# Altium integrated library Integrated_Library2.IntLib: 4 symbols
Pins are listed as number, name and electrical type; pins without a type are passive.

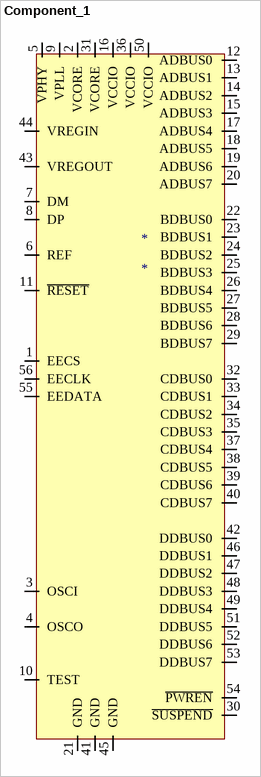
[diagram p0: symbol Component_1]

## Component_1
designator *
footprint QFN50P800X800X100-56N (QFN, 56-Leads, Body 8,1x8,1mm (max), Pitch 0,50mm, IPC Medium Density)
pins: 1 EECS, 2 VCORE, 3 OSCI, 4 OSCO, 5 VPHY, 6 REF, 7 DM, 8 DP, 9 VPLL, 10 TEST, 11 ~{RESET}, 12 ADBUS0, 13 ADBUS1, 14 ADBUS2, 15 ADBUS3, 16 VCCIO, 17 ADBUS4, 18 ADBUS5, 19 ADBUS6, 20 ADBUS7, 21 GND, 22 BDBUS0, 23 BDBUS1, 24 BDBUS2, 25 BDBUS3, 26 BDBUS4, 27 BDBUS5, 28 BDBUS6, 29 BDBUS7, 30 ~{SUSPEND}, 31 VCORE, 32 CDBUS0, 33 CDBUS1, 34 CDBUS2, 35 CDBUS3, 36 VCCIO, 37 CDBUS4, 38 CDBUS5, 39 CDBUS6, 40 CDBUS7, 41 GND, 42 DDBUS0, 43 VREGOUT, 44 VREGIN, 45 GND, 46 DDBUS1, 47 DDBUS2, 48 DDBUS3, 49 DDBUS4, 50 VCCIO, 51 DDBUS5, 52 DDBUS6, 53 DDBUS7, 54 ~{PWREN}, 55 EEDATA, 56 EECLK


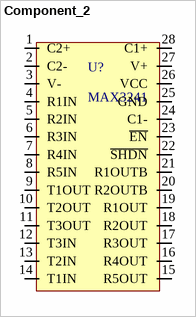
[diagram p1: symbol Component_2]

## Component_2
designator U?, comment MAX3241
footprint SOP65P780X199-28N (SOP, 28-Leads, Body 10,3x5,4mm (max), Pitch 0,65mm, IPC Medium Density)
pins: 1 C2+, 2 C2-, 3 V-, 4 R1IN, 5 R2IN, 6 R3IN, 7 R4IN, 8 R5IN, 9 T1OUT, 10 T2OUT, 11 T3OUT, 12 T3IN, 13 T2IN, 14 T1IN, 15 R5OUT, 16 R4OUT, 17 R3OUT, 18 R2OUT, 19 R1OUT, 20 R2OUTB, 21 R1OUTB, 22 ~{SHDN}, 23 ~{EN}, 24 C1-, 25 GND, 26 VCC, 27 V+, 28 C1+


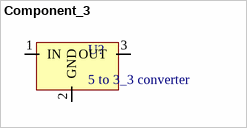
[diagram p2: symbol Component_3]

## Component_3
designator U?, comment 5 to 3_3 converter
footprint SOT230P700X180-4N (SOT223, 4-Leads, Body 6,7x7,3mm (max), Pitch 2,30mm, IPC Medium Density)
pins: 1 IN, 2 GND, 3 OUT


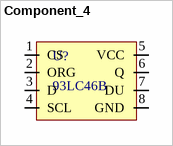
[diagram p3: symbol Component_4]

## Component_4
designator U?, comment 93LC46B
footprint TSOP65P640X120-8N (TSOP, 8-Leads, Body 3,1x4,5mm (max), Pitch 0,65mm, IPC Medium Density)
pins: 1 CS, 2 ORG, 3 D, 4 SCL, 5 VCC, 6 Q, 7 DU, 8 GND